# Altium footprint library PC_SODIMM_1.PcbLib: 1 footprints
Each footprint in its own frame and in the unit in brackets; x right, y up, seen from the top. Pads: shape width x height; smd on the part's side, far side on the other; paste and mask are expansions set on the pad; w line width, h text height; cw(c..) or ccw(c..) is an arc to the next point about the centre after c.
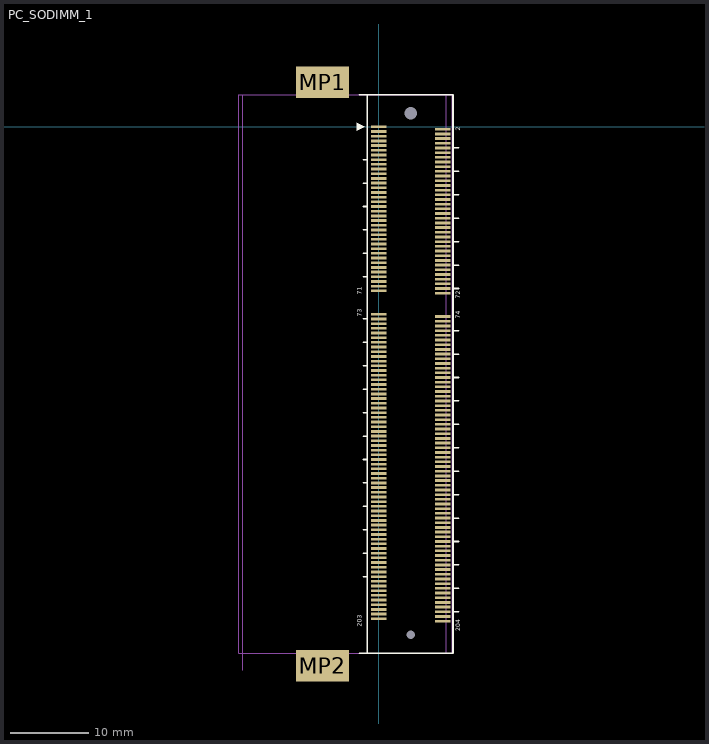
[diagram p0: the footprint, top view; thin cyan lines are the x and y axes]

## PC_SODIMM_1 [mm] "pitch 0.6mm Body71.5X26mm High8mm, Reverse"
height 8
pads (208):
  rect 0x0 hole 1.1 unplated: 0(4.1,-65.05)
  rect 0x0 hole 1.6 unplated: 0(4.1,1.75)
  rect 2x0.35 smd: 1(0,0) 2(8.2,-0.3) 3(0,-0.6) 4(8.2,-0.9) 5(0,-1.2) 6(8.2,-1.5) 7(0,-1.8) 8(8.2,-2.1) 9(0,-2.4) 10(8.2,-2.7) 11(0,-3) 12(8.2,-3.3) 13(0,-3.6) 14(8.2,-3.9) 15(0,-4.2) 16(8.2,-4.5) 17(0,-4.8) 18(8.2,-5.1) 19(0,-5.4) 20(8.2,-5.7) 21(0,-6) 22(8.2,-6.3) 23(0,-6.6) 24(8.2,-6.9) 25(0,-7.2) 26(8.2,-7.5) 27(0,-7.8) 28(8.2,-8.1) 29(0,-8.4) 30(8.2,-8.7) 31(0,-9) 32(8.2,-9.3) 33(0,-9.6) 34(8.2,-9.9) 35(0,-10.2) 36(8.2,-10.5) 37(0,-10.8) 38(8.2,-11.1) 39(0,-11.4) 40(8.2,-11.7) 41(0,-12) 42(8.2,-12.3) 43(0,-12.6) 44(8.2,-12.9) 45(0,-13.2) 46(8.2,-13.5) 47(0,-13.8) 48(8.2,-14.1) 49(0,-14.4) 50(8.2,-14.7) 51(0,-15) 52(8.2,-15.3) 53(0,-15.6) 54(8.2,-15.9) 55(0,-16.2) 56(8.2,-16.5) 57(0,-16.8) 58(8.2,-17.1) 59(0,-17.4) 60(8.2,-17.7) 61(0,-18) 62(8.2,-18.3) 63(0,-18.6) 64(8.2,-18.9) 65(0,-19.2) 66(8.2,-19.5) 67(0,-19.8) 68(8.2,-20.1) 69(0,-20.4) 70(8.2,-20.7) 71(0,-21) 72(8.2,-21.3) 73(0,-24) 74(8.2,-24.3) 75(0,-24.6) 76(8.2,-24.9) 77(0,-25.2) 78(8.2,-25.5) 79(0,-25.8) 80(8.2,-26.1) 81(0,-26.4) 82(8.2,-26.7) 83(0,-27) 84(8.2,-27.3) 85(0,-27.6) 86(8.2,-27.9) 87(0,-28.2) 88(8.2,-28.5) 89(0,-28.8) 90(8.2,-29.1) 91(0,-29.4) 92(8.2,-29.7) 93(0,-30) 94(8.2,-30.3) 95(0,-30.6) 96(8.2,-30.9) 97(0,-31.2) 98(8.2,-31.5) 99(0,-31.8) 100(8.2,-32.1) 101(0,-32.4) 102(8.2,-32.7) 103(0,-33) 104(8.2,-33.3) 105(0,-33.6) 106(8.2,-33.9) 107(0,-34.2) 108(8.2,-34.5) 109(0,-34.8) 110(8.2,-35.1) 111(0,-35.4) 112(8.2,-35.7) 113(0,-36) 114(8.2,-36.3) 115(0,-36.6) 116(8.2,-36.9) 117(0,-37.2) 118(8.2,-37.5) 119(0,-37.8) 120(8.2,-38.1) 121(0,-38.4) 122(8.2,-38.7) 123(0,-39) 124(8.2,-39.3) 125(0,-39.6) 126(8.2,-39.9) 127(0,-40.2) 128(8.2,-40.5) 129(0,-40.8) 130(8.2,-41.1) 131(0,-41.4) 132(8.2,-41.7) 133(0,-42) 134(8.2,-42.3) 135(0,-42.6) 136(8.2,-42.9) 137(0,-43.2) 138(8.2,-43.5) 139(0,-43.8) 140(8.2,-44.1) 141(0,-44.4) 142(8.2,-44.7) 143(0,-45) 144(8.2,-45.3) 145(0,-45.6) 146(8.2,-45.9) 147(0,-46.2) 148(8.2,-46.5) 149(0,-46.8) 150(8.2,-47.1) 151(0,-47.4) 152(8.2,-47.7) 153(0,-48) 154(8.2,-48.3) 155(0,-48.6) 156(8.2,-48.9) 157(0,-49.2) 158(8.2,-49.5) 159(0,-49.8) 160(8.2,-50.1) 161(0,-50.4) 162(8.2,-50.7) 163(0,-51) 164(8.2,-51.3) 165(0,-51.6) 166(8.2,-51.9) 167(0,-52.2) 168(8.2,-52.5) 169(0,-52.8) 170(8.2,-53.1) 171(0,-53.4) 172(8.2,-53.7) 173(0,-54) 174(8.2,-54.3) 175(0,-54.6) 176(8.2,-54.9) 177(0,-55.2) 178(8.2,-55.5) 179(0,-55.8) 180(8.2,-56.1) 181(0,-56.4) 182(8.2,-56.7) 183(0,-57) 184(8.2,-57.3) 185(0,-57.6) 186(8.2,-57.9) 187(0,-58.2) 188(8.2,-58.5) 189(0,-58.8) 190(8.2,-59.1) 191(0,-59.4) 192(8.2,-59.7) 193(0,-60) 194(8.2,-60.3) 195(0,-60.6) 196(8.2,-60.9) 197(0,-61.2) 198(8.2,-61.5) 199(0,-61.8) 200(8.2,-62.1) 201(0,-62.4) 202(8.2,-62.7) 203(0,-63) 204(8.2,-63.3)
  rect 6.8x4 smd: MP1(-7.2,5.7) MP2(-7.2,-69)
Top Overlay:
  region: -2.8,0.5 -2.8,-0.5 -1.8,0
  lines w0.2: -2.5,-67.4 -1.5,-67.4 ; -2.5,4.1 -1.5,4.1 ; -2,-57.6 -1.5,-57.6 ; -2,-54.6 -1.5,-54.6 ; -2,-51.6 -1.5,-51.6 ; -2,-48.6 -1.5,-48.6 ; -2,-45.6 -1.5,-45.6 ; -2,-42.6 -1.5,-42.6 ; -2,-39.6 -1.5,-39.6 ; -2,-36.6 -1.5,-36.6 ; -2,-33.6 -1.5,-33.6 ; -2,-30.6 -1.5,-30.6 ; -2,-27.6 -1.5,-27.6 ; -2,-24.6 -1.5,-24.6 ; -2,-19.2 -1.5,-19.2 ; -2,-16.2 -1.5,-16.2 ; -2,-13.2 -1.5,-13.2 ; -2,-10.2 -1.5,-10.2 ; -2,-7.2 -1.5,-7.2 ; -2,-4.2 -1.5,-4.2 ; 9.5,-62.1 10.2,-62.1 ; 9.5,-59.1 10.2,-59.1 ; 9.5,-56.1 10.2,-56.1 ; 9.5,-53.1 10.2,-53.1 ; 9.5,-50.1 10.2,-50.1 ; 9.5,-47.1 10.2,-47.1 ; 9.5,-44.1 10.2,-44.1 ; 9.5,-41.1 10.2,-41.1 ; 9.5,-38.1 10.2,-38.1 ; 9.5,-35.1 10.2,-35.1 ; 9.5,-32.1 10.2,-32.1 ; 9.5,-29.1 10.2,-29.1 ; 9.5,-26.1 10.2,-26.1 ; 9.5,-20.7 10.2,-20.7 ; 9.5,-17.7 10.2,-17.7 ; 9.5,-14.7 10.2,-14.7 ; 9.5,-11.7 10.2,-11.7 ; 9.5,-8.7 10.2,-8.7 ; 9.5,-5.7 10.2,-5.7 ; 9.5,-2.7 10.2,-2.7 ; -1.5,-67.4 9.5,-67.4 9.5,4.1 -1.5,4.1 ; -1.5,-67.4 -1.5,-60.6 -1.5,-2.9 -1.5,4.1
  text "204" at 10.6,-64.6 h1
  text "203" at -2,-64 h1
  text "2" at 10.612,-0.5 h1
  text "72" at 10.612,-22 h1
  text "73" at -2,-24.3 h1
  text "71" at -2,-21.5 h1
  text "74" at 10.612,-24.6 h1
Mechanical 13:
  lines w0.1: -17.8,-67.4 8.65,-67.4 8.65,4.1 -17.8,4.1 ; -17.414,-69.576 -17.4,-69.576 -17.4,4.1
Mechanical 15:
  lines w0.1: -17.972,-67.426 -17.972,4.126 9.426,4.126 9.426,-67.426 -17.972,-67.426
3D body: height 8.05, standoff -0.3, extent -17.954,-70.026 8.649,6.726
3D body: height 8.51, standoff 2.6, extent -45.334,-68.448 8.71,5.202